# Altium footprint library PcbLib1.PcbLib: 2 footprints
Each footprint in its own frame and in the unit in brackets; x right, y up, seen from the top. Pads: shape width x height; smd on the part's side, far side on the other; paste and mask are expansions set on the pad; w line width, h text height; cw(c..) or ccw(c..) is an arc to the next point about the centre after c.
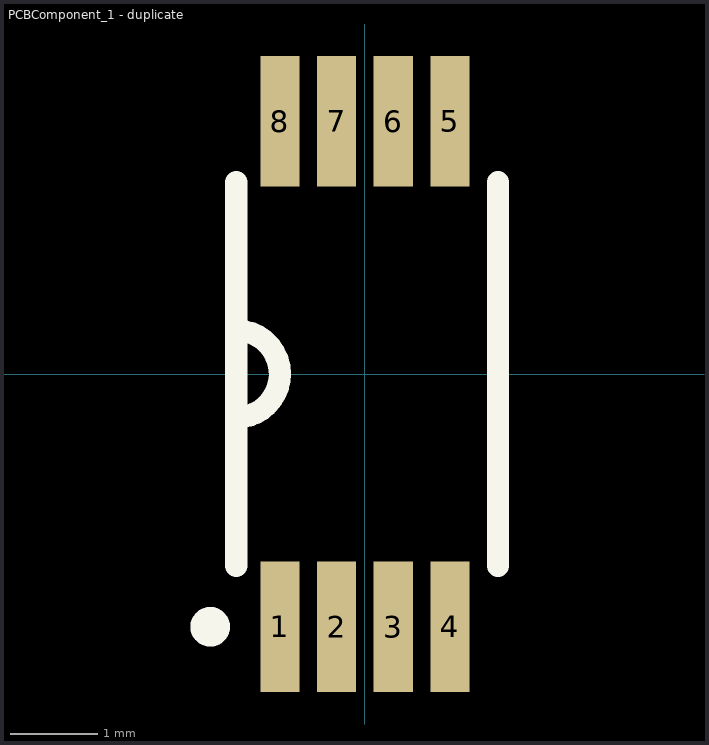
[diagram p0: the footprints below, top view; thin cyan lines are the x and y axes]

## PCBComponent_1 [mm]

## PCBComponent_1 - duplicate [mm]
pads (8):
  rect 0.45x1.5 smd: 1(-0.975,-2.9) 2(-0.325,-2.9) 3(0.325,-2.9) 4(0.975,-2.9) 5(0.975,2.9) 6(0.325,2.9) 7(-0.325,2.9) 8(-0.975,2.9)
Top Overlay:
  circle w0.254: c-1.775,-2.9 r0.1
  lines w0.254: -1.475,-2.2 -1.475,2.2 ; -1.475,-0.5 ccw(c-1.475,0) -0.975,0 ccw(c-1.475,0) -1.475,0.5 ; 1.525,-2.2 1.525,2.2
3D body "User Library-TSS0P8.step": height 1.09, standoff 0, extent -1.425,-3.115 1.575,3.165